# Altium footprint library MyProject.PcbLib: 34 footprints (part 2 of 3)
Each footprint in its own frame and in the unit in brackets; x right, y up, seen from the top. Pads: shape width x height; smd on the part's side, far side on the other; paste and mask are expansions set on the pad; w line width, h text height; cw(c..) or ccw(c..) is an arc to the next point about the centre after c.
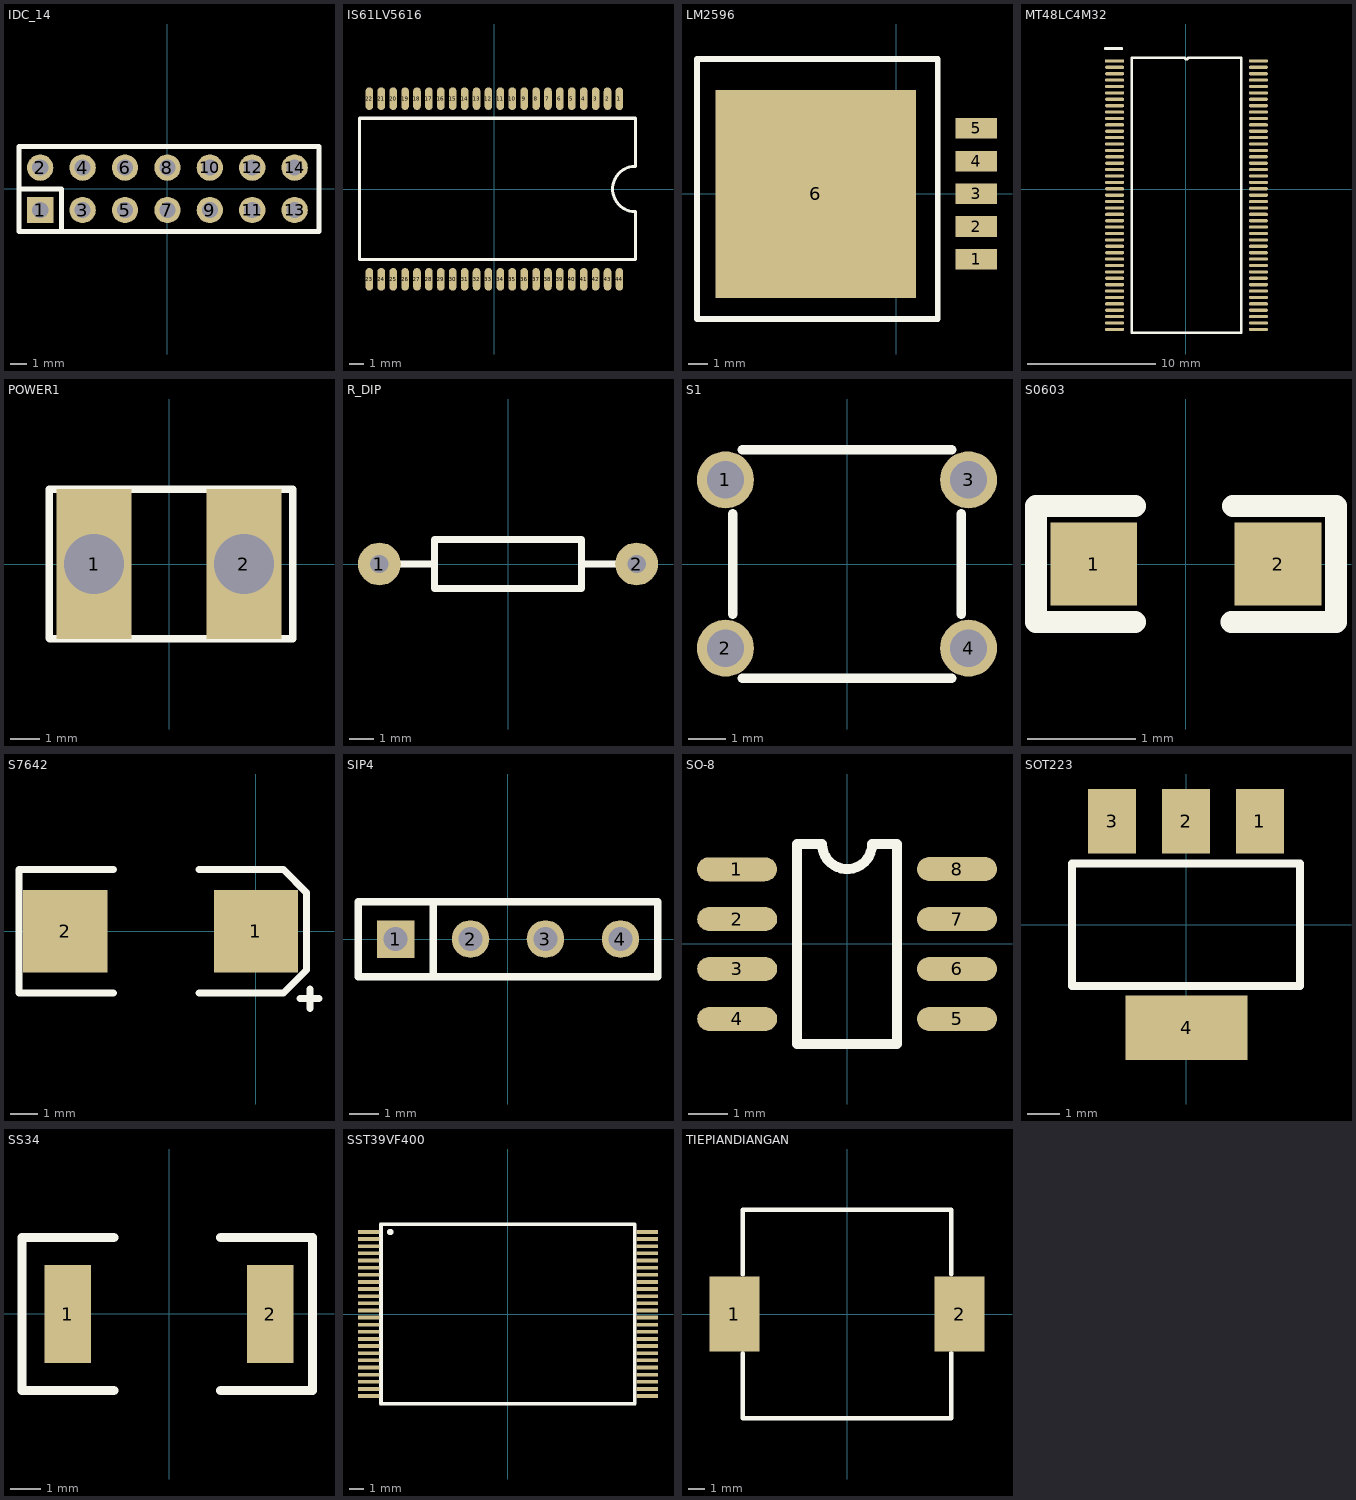
[diagram p1: the footprints below, top view; thin cyan lines are the x and y axes]

## IDC_14 [mil]
pads (14):
  rect 62x62 hole 38: 1(-299.57,-49.68)
  round 62 hole 38: 2(-299.57,50.32) 3(-199.57,-49.68) 4(-199.57,50.32) 5(-99.58,-49.68) 6(-99.58,50.32) 7(0.42,-49.68) 8(0.42,50.32) 9(100.42,-49.68) 10(100.42,50.32) 11(200.43,-49.68) 12(200.43,50.32) 13(300.43,-49.68) 14(300.43,50.32)
Top Overlay:
  lines w12: -349.57,0.32 -249.57,0.32 -249.57,-99.68 ; -349.57,-99.68 357.91,-100.46 357.91,99.54 -349.57,100.32 -349.57,-99.68

## IS61LV5616 [mil]
pads (44):
  oval 20x60 smd: 1(331.1,239.01) 2(299.68,239.32) 3(268.18,239.32) 4(236.68,239.32) 5(205.18,239.32) 6(173.68,239.32) 7(142.18,239.32) 8(110.68,239.32) 9(79.18,239.32) 10(47.68,239.32) 11(16.18,239.32) 12(-15.32,239.32) 13(-46.82,239.32) 14(-78.32,239.32) 15(-109.82,239.32) 16(-141.32,239.32) 17(-172.82,239.32) 18(-204.32,239.32) 19(-235.82,239.32) 20(-267.32,239.32) 21(-298.82,239.32) 22(-330.32,239.32) 23(-330.32,-238.68) 24(-298.82,-238.68) 25(-267.32,-238.68) 26(-235.82,-238.68) 27(-204.32,-238.68) 28(-172.82,-238.68) 29(-141.32,-238.68) 30(-109.82,-238.68) 31(-78.32,-238.68) 32(-46.82,-238.68) 33(-15.32,-238.68) 34(16.18,-238.68) 35(47.68,-238.68) 36(79.18,-238.68) 37(110.68,-238.68) 38(142.18,-238.68) 39(173.68,-238.68) 40(205.18,-238.68) 41(236.68,-238.68) 42(268.18,-238.68) 43(299.68,-238.68) 44(331.18,-238.68)
Top Overlay:
  lines w8: -355.82,-186.54 -355.82,187.47 373.18,187.47 373.18,60.32 ccw(c373.18,0.32) 373.18,-59.68 373.18,-186.54 -355.82,-186.54

## LM2596 [mm]
pads (6):
  rect 2.16x1.07 smd: 1(4.155,-3.411) 2(4.155,-1.711) 3(4.155,-0.011) 4(4.155,1.689) 5(4.155,3.389)
  rect 10.41x10.8 smd: 6(-4.17,-0.011)
Top Overlay:
  lines w0.305: -10.345,-6.511 2.155,-6.511 2.155,6.489 2.155,6.989 -10.345,6.989 -10.345,-6.511

## MT48LC4M32 [mm]
pads (87):
  oval 1.5x0.251 on Top Overlay: 0(-5.652,10.991)
  rect 1.5x0.251 smd: 1(-5.576,10.026)
  oval 1.5x0.251 smd: 2(-5.576,9.526) 3(-5.576,9.026) 4(-5.576,8.526) 5(-5.576,8.026) 6(-5.576,7.526) 7(-5.576,7.026) 8(-5.576,6.526) 9(-5.576,6.026) 10(-5.576,5.526) 11(-5.576,5.026) 12(-5.576,4.526) 13(-5.576,4.026) 14(-5.576,3.526) 15(-5.576,3.026) 16(-5.576,2.526) 17(-5.576,2.026) 18(-5.576,1.526) 19(-5.576,1.026) 20(-5.576,0.526) 21(-5.576,0.026) 22(-5.576,-0.474) 23(-5.576,-0.974) 24(-5.576,-1.474) 25(-5.576,-1.974) 26(-5.576,-2.474) 27(-5.576,-2.974) 28(-5.576,-3.474) 29(-5.576,-3.974) 30(-5.576,-4.474) 31(-5.576,-4.974) 32(-5.576,-5.474) 33(-5.576,-5.974) 34(-5.576,-6.474) 35(-5.576,-6.974) 36(-5.576,-7.474) 37(-5.576,-7.974) 38(-5.576,-8.474) 39(-5.576,-8.974) 40(-5.576,-9.474) 41(-5.576,-9.974) 42(-5.576,-10.474) 43(-5.576,-10.974) 44(5.674,-10.974) 45(5.674,-10.474) 46(5.674,-9.974) 47(5.674,-9.474) 48(5.674,-8.974) 49(5.674,-8.474) 50(5.674,-7.974) 51(5.674,-7.474) 52(5.674,-6.974) 53(5.674,-6.474) 54(5.674,-5.974) 55(5.674,-5.474) 56(5.674,-4.974) 57(5.674,-4.474) 58(5.674,-3.974) 59(5.674,-3.474) 60(5.674,-2.974) 61(5.674,-2.474) 62(5.674,-1.974) 63(5.674,-1.474) 64(5.674,-0.974) 65(5.674,-0.474) 66(5.674,0.026) 67(5.674,0.526) 68(5.674,1.026) 69(5.674,1.526) 70(5.674,2.026) 71(5.674,2.526) 72(5.674,3.026) 73(5.674,3.526) 74(5.674,4.026) 75(5.674,4.526) 76(5.674,5.026) 77(5.674,5.526) 78(5.674,6.026) 79(5.674,6.526) 80(5.674,7.026) 81(5.674,7.526) 82(5.674,8.026) 83(5.674,8.526) 84(5.674,9.026) 85(5.674,9.526) 86(5.674,10.026)
Top Overlay:
  lines w0.2: -4.241,-11.224 -4.241,10.276 -0.076,10.276 ccw(c0.049,10.276) 0.174,10.276 4.339,10.276 4.339,-11.224 -4.241,-11.224

## PCBComponent_1 [mil]

## POWER1 [mil]
pads (2):
  rect 100x200 hole 80: 1(-100,0) 2(100,0)
Top Overlay:
  lines w10: -160,-99 -160,100 -50,100 150,100 165,100 165,-100 150,-100 -50,-100 ; -159,-100 -38,-100

## R_DIP [mil]
pads (2):
  round 70 hole 30: 1(-210,0) 2(210,0)
Top Overlay:
  lines w12: -200,0 -120,0 ; 120,0 200,0 ; -120,-40 120,-40 120,40 -120,40 -120,-40

## S1 [mm]
pads (4):
  round 1.524 hole 1: 1(-3.25,2.25) 2(-3.25,-2.25) 3(3.25,2.25) 4(3.25,-2.25)
Top Overlay:
  lines w0.254: -3.05,-1.35 -3.05,1.35 ; -2.8,-3.05 2.8,-3.05 ; -2.8,3.05 2.8,3.05 ; 3.05,-1.35 3.05,1.35

## S0603 [mm]
pads (2):
  rect 0.8x0.762 smd: 1(-0.85,0) 2(0.85,0)
Top Overlay:
  lines w0.203: -0.469,-0.533 -1.383,-0.533 -1.383,0.533 -0.469,0.533 ; 0.42,-0.533 1.385,-0.533 1.385,0.533 0.433,0.533

## S7642 [mil]
pads (2):
  rect 120x118.11 smd: 1(0,0) 2(-271.75,0)
Top Overlay:
  lines w10: -202.75,-88 -337.75,-88 -337.75,88 -202.75,88 ; -80.75,-88 39.25,-88 72.25,-55 ; -80.75,88 39.25,88 72.25,55 72.25,-52 ; 63,-96 90,-96 ; 77,-110 77,-82

## SIP4 [mil]
pads (4):
  rect 50x50 hole 32: 1(-149.51,0.13)
  round 50 hole 32: 2(-49.51,0.13) 3(50.49,0.13) 4(150.49,0.13)
Top Overlay:
  lines w10: -99.51,-49.87 -99.51,50.13 ; -199.51,-49.87 -199.51,50.13 200.49,50.13 200.49,-49.87 -199.51,-49.87

## SO-8 [mil]
pads (8):
  oval 80x24 smd: 1(-110.12,74.76) 2(-109.88,25) 3(-109.88,-25) 4(-109.88,-75) 5(110.12,-75) 6(110.12,-25) 7(110.12,25) 8(110.12,75)
Top Overlay:
  lines w10: -49.88,-100 50.12,-100 50.12,100 25.12,100 cw(c0.12,100) -24.88,100 -49.88,100 -49.88,-100

## SOT223 [mil]
pads (4):
  rect 59x79 smd: 1(90.55,126.77) 2(0,126.77) 3(-90.55,126.77)
  rect 150x79 smd: 4(0.67,-126.77)
Top Overlay:
  lines w10: -140,-75.23 140,-75.23 140,74.77 -140,74.77 -140,-75.23

## SS34 [mm]
pads (2):
  rect 1.52x3.2 smd: 1(-3.311,-0.011) 2(3.299,-0.011)
Top Overlay:
  lines w0.305: -1.811,-2.511 -4.811,-2.511 -4.811,2.489 -1.811,2.489 ; 1.689,-2.511 4.689,-2.511 4.689,2.489 1.689,2.489

## SST39VF400 [mil]
pads (48):
  rect 60x10.27 smd: 1(-383.43,226.7) 2(-383.43,207.02) 3(-383.43,187.33) 4(-383.43,167.65) 5(-383.43,147.96) 6(-383.43,128.28) 7(-383.43,108.59) 8(-383.43,88.9) 9(-383.43,69.22) 10(-383.43,49.53) 11(-383.43,29.85) 12(-383.43,10.16) 13(-383.43,-9.52) 14(-383.43,-29.21) 15(-383.43,-48.89) 16(-383.43,-68.58) 17(-383.43,-88.26) 18(-383.43,-107.95) 19(-383.43,-127.63) 20(-383.43,-147.32) 21(-383.43,-167) 22(-383.43,-186.69) 23(-383.43,-206.37) 24(-383.43,-226.06) 25(384.28,-226.06) 26(384.28,-206.37) 27(384.28,-186.69) 28(384.28,-167) 29(384.28,-147.32) 30(384.28,-127.63) 31(384.28,-107.95) 32(384.28,-88.26) 33(384.28,-68.58) 34(384.28,-48.89) 35(384.28,-29.21) 36(384.28,-9.52) 37(384.28,10.16) 38(384.28,29.85) 39(384.28,49.53) 40(384.28,69.22) 41(384.28,88.9) 42(384.28,108.59) 43(384.28,128.28) 44(384.28,147.96) 45(384.28,167.65) 46(384.28,187.33) 47(384.28,207.02) 48(384.28,226.7)
Top Overlay:
  circle w10: c-324.55,226.61 r3.86
  lines w10: 349.91,248.41 -349.89,248.41 -349.99,248.31 -349.99,-247.49 -349.69,-247.79 349.91,-247.79 350.11,-247.59 350.11,-196.14 ; 350.13,-207.73 350.13,246.97

## TIEPIANDIANGAN [mm]
pads (2):
  rect 3x4.5 smd: 1(-6.75,0) 2(6.75,0)
Top Overlay:
  lines w0.254: -6.25,-2.35 -6.25,-6.25 6.25,-6.25 6.25,-2.342 ; -6.25,2.366 -6.25,6.25 6.25,6.25 6.25,2.383